# EAGLE library part 2199230-4 (library TE_Conn_M_2_Connector_2199230-4)
CONNECTOR, BACKPLANE, HOUSING, RCPT, 67POS, 2ROW; Connector Type: Card Edge; Seri
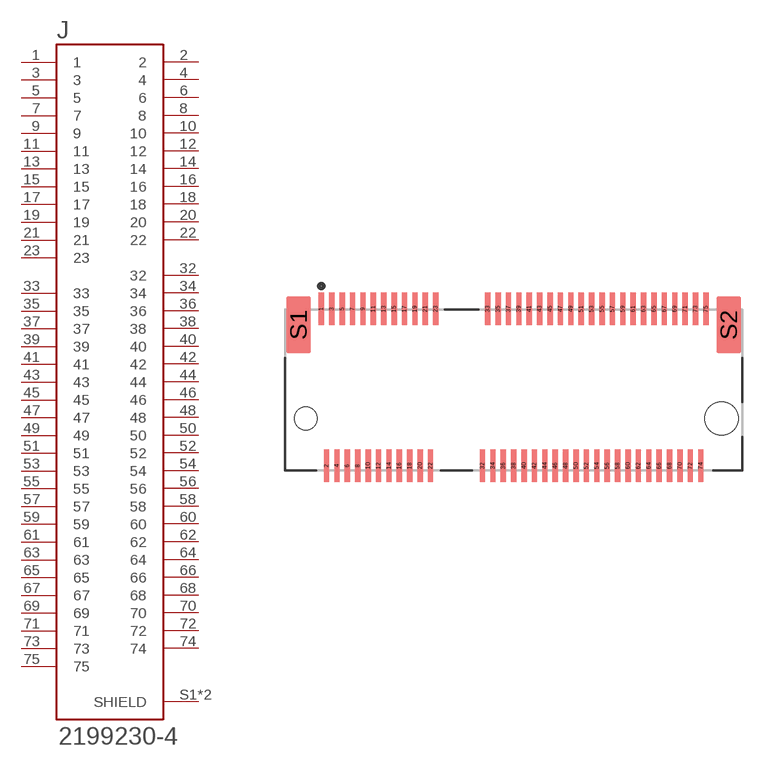
[diagram p0: symbol with the pads of TE_2199230-4; footprint TE_2199230-4]

Designator prefix J

## 2199230-4 (Comment: 2199230-4; Description: Connector, Backplane, Housing, Receptacle, 67 Position, 2row; Digi-Key_Part_Number: A115904CT-ND; Digi-Key_Purchase_URL: https://www.digikey.com/product-detail/en/te-connectivity-amp-connectors/2199230-4/A115904CT-ND/4208916?utm_source=snapeda&utm_medium=aggregator&utm_campaign=symbol; EU_RoHS_Compliance: Compliant; MF: TE Connectivity; MP: 2199230-4; Package: None; TE_purchase_URL: https://www.te.com/usa-en/product-2199230-4.html?te_bu=Cor&te_type=disp&te_campaign=seda_glo_cor-seda-global-disp-prtnr-fy19-seda-model-bom-cta_sma-317_1&elqCampaignId=32493)  [TE_2199230-4]
1  1  pas
2  2  pas
3  3  pas
4  4  pas
5  5  pas
6  6  pas
7  7  pas
8  8  pas
9  9  pas
10  10  pas
11  11  pas
12  12  pas
13  13  pas
14  14  pas
15  15  pas
16  16  pas
17  17  pas
18  18  pas
19  19  pas
20  20  pas
21  21  pas
22  22  pas
23  23  pas
32  32  pas
33  33  pas
34  34  pas
35  35  pas
36  36  pas
37  37  pas
38  38  pas
39  39  pas
40  40  pas
41  41  pas
42  42  pas
43  43  pas
44  44  pas
45  45  pas
46  46  pas
47  47  pas
48  48  pas
49  49  pas
50  50  pas
51  51  pas
52  52  pas
53  53  pas
54  54  pas
55  55  pas
56  56  pas
57  57  pas
58  58  pas
59  59  pas
60  60  pas
61  61  pas
62  62  pas
63  63  pas
64  64  pas
65  65  pas
66  66  pas
67  67  pas
68  68  pas
69  69  pas
70  70  pas
71  71  pas
72  72  pas
73  73  pas
74  74  pas
75  75  pas
S1  SHIELD  pas
S2  SHIELD  pas

## Footprint TE_2199230-4 (pad centres in mm)
smd 0.3 x 1.55: 1 -9.25,3.9; 2 -9,-3.65; 3 -8.75,3.9; 4 -8.5,-3.65; 5 -8.25,3.9; 6 -8,-3.65; 7 -7.75,3.9; 8 -7.5,-3.65; 9 -7.25,3.9; 10 -7,-3.65; 11 -6.75,3.9; 12 -6.5,-3.65; 13 -6.25,3.9; 14 -6,-3.65; 15 -5.75,3.9; 16 -5.5,-3.65; 17 -5.25,3.9; 18 -5,-3.65; 19 -4.75,3.9; 20 -4.5,-3.65; 21 -4.25,3.9; 22 -4,-3.65; 23 -3.75,3.9; 32 -1.5,-3.65; 33 -1.25,3.9; 34 -1,-3.65; 35 -0.75,3.9; 36 -0.5,-3.65; 37 -0.25,3.9; 38 0,-3.65; 39 0.25,3.9; 40 0.5,-3.65; 41 0.75,3.9; 42 1,-3.65; 43 1.25,3.9; 44 1.5,-3.65; 45 1.75,3.9; 46 2,-3.65; 47 2.25,3.9; 48 2.5,-3.65; 49 2.75,3.9; 50 3,-3.65; 51 3.25,3.9; 52 3.5,-3.65; 53 3.75,3.9; 54 4,-3.65; 55 4.25,3.9; 56 4.5,-3.65; 57 4.75,3.9; 58 5,-3.65; 59 5.25,3.9; 60 5.5,-3.65; 61 5.75,3.9; 62 6,-3.65; 63 6.25,3.9; 64 6.5,-3.65; 65 6.75,3.9; 66 7,-3.65; 67 7.25,3.9; 68 7.5,-3.65; 69 7.75,3.9; 70 8,-3.65; 71 8.25,3.9; 72 8.5,-3.65; 73 8.75,3.9; 74 9,-3.65; 75 9.25,3.9
smd 1.2 x 2.75: S1 -10.35,3.125; S2 10.35,3.125
hole 1.1 at -10,-1.375
hole 1.6 at 10,-1.375